# Altium footprint library JST_S2B-PH-K-S.PcbLib: 1 footprints
Each footprint in its own frame and in the unit in brackets; x right, y up, seen from the top. Pads: shape width x height; smd on the part's side, far side on the other; paste and mask are expansions set on the pad; w line width, h text height; cw(c..) or ccw(c..) is an arc to the next point about the centre after c.
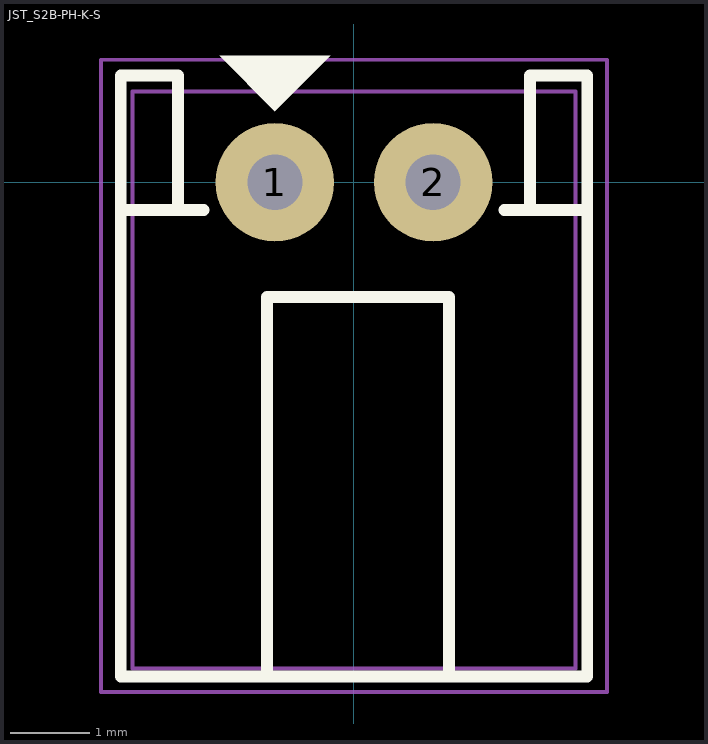
[diagram p0: the footprint, top view; thin cyan lines are the x and y axes]

## JST_S2B-PH-K-S [mm]
pads (2):
  round 1.5 hole 0.7 mask-0.1: 1(-1,0) 2(1,0)
Top Overlay:
  region: -1,0.9 -0.3,1.6 -1.7,1.6
  lines w0.15: -2.95,-0.35 -1.9,-0.35 ; -2.225,-0.35 -2.225,1.35 -2.95,1.35 -2.95,-6.25 2.95,-6.25 2.95,1.35 2.225,1.35 2.225,-0.35 ; -1.1,-6.25 -1.1,-1.45 1.2,-1.45 1.2,-6.25 ; 1.9,-0.35 2.95,-0.35
Top Assembly:
  lines w0.05: -2.8,-6.15 2.8,-6.15 2.8,1.15 -2.8,1.15 -2.8,-6.15
Top Courtyard:
  lines w0.05: -3.2,-6.45 3.2,-6.45 3.2,1.55 -3.2,1.55 -3.2,-6.45
3D body "S2B-PH-K-S(LF)(SN)--3DModel-STEP-1.STEP": height 4.81, standoff -3.37, extent -2.95,-6.25 2.95,1.35
3D body "PHR-2.STEP": height 4.82, standoff 0.33, extent -2.9,-8.825 2.9,-1.975